# EAGLE library part JST_6_PIN_HORIZONTAL (library SW_Connectors)
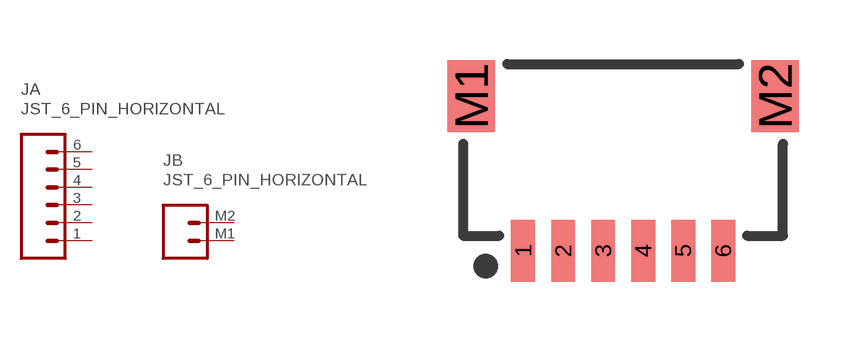
[diagram p19: symbol with the pads of JST-6-SMD-HORI-1.0MM; footprint JST-6-SMD-HORI-1.0MM]

Designator prefix J; gates A=CONN_06-1 B=CONN_02-1

## JST_6_PIN_HORIZONTAL (CATEGORY: Connector; DESCRIPTION: Connector Header Surface Mount, Right Angle 6 position 0.039" (1.00mm); MFGS: JST; MPNS: SM06B-SRSS-TB(LF)(SN); PACKAGE: JSTM-6 SMD)  [JST-6-SMD-HORI-1.0MM]
1  A:1  pas
2  A:2  pas
3  A:3  pas
4  A:4  pas
5  A:5  pas
6  A:6  pas
M1  B:1  pas
M2  B:2  pas

## Footprint JST-6-SMD-HORI-1.0MM (pad centres in mm)
JST SH Vertical 6-Pin SMT Specifications: Pin count:6 Pin pitch: 1 mm Datasheet referenced for footprint <https://www.sparkfun.com/datasheets/GPS/EM406-SMDConnector-eSH.pdf> Example device(s): JST_6PIN_VERTICAL
smd 0.6 x 1.55: 1 -2.5,-4.775; 2 -1.5,-4.775; 3 -0.5,-4.775; 4 0.5,-4.775; 5 1.5,-4.775; 6 2.5,-4.775
smd 1.2 x 1.8: M1 -3.8,-0.9; M2 3.8,-0.9